# Altium footprint library LFCSP-8_3x2x05P.PcbLib: 1 footprints
Each footprint in its own frame and in the unit in brackets; x right, y up, seen from the top. Pads: shape width x height; smd on the part's side, far side on the other; paste and mask are expansions set on the pad; w line width, h text height; cw(c..) or ccw(c..) is an arc to the next point about the centre after c.
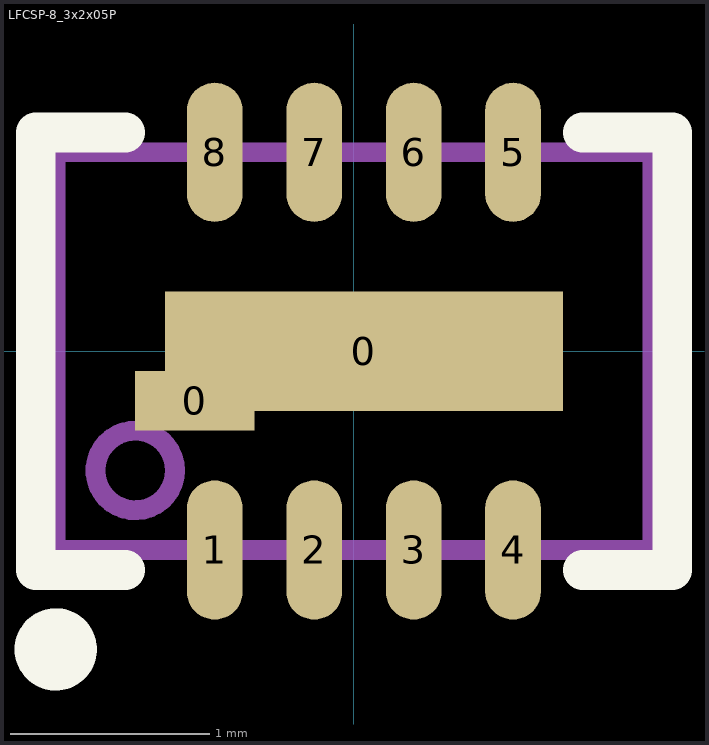
[diagram p0: the footprint, top view; thin cyan lines are the x and y axes]

## LFCSP-8_3x2x05P [mm]
pads (10):
  rect 0.6x0.3 smd mask+0.051: 0(-0.8,-0.25)
  rect 2x0.6 smd mask+0.051: 0(0.05,0)
  oval 0.28x0.7 smd mask+0.051: 1(-0.7,-1) 2(-0.2,-1) 3(0.3,-1) 4(0.8,-1) 5(0.8,1) 6(0.3,1) 7(-0.2,1) 8(-0.7,1)
Top Overlay:
  circle w0.254: c-1.5,-1.5 r0.08
  lines w0.2: -1.15,-1.1 -1.6,-1.1 -1.6,1.1 -1.15,1.1 ; 1.15,-1.1 1.6,-1.1 1.6,1.1 1.15,1.1
Mechanical 13:
  circle w0.1: c-1.1,-0.6 r0.2
  lines w0.1: -1.5,-1 1.5,-1 1.5,1 -1.5,1 -1.5,-1